# Altium footprint library FootPrintLib_2.PcbLib: 173 footprints (part 1 of 11)
Each footprint in its own frame and in the unit in brackets; x right, y up, seen from the top. Pads: shape width x height; smd on the part's side, far side on the other; paste and mask are expansions set on the pad; w line width, h text height; cw(c..) or ccw(c..) is an arc to the next point about the centre after c.
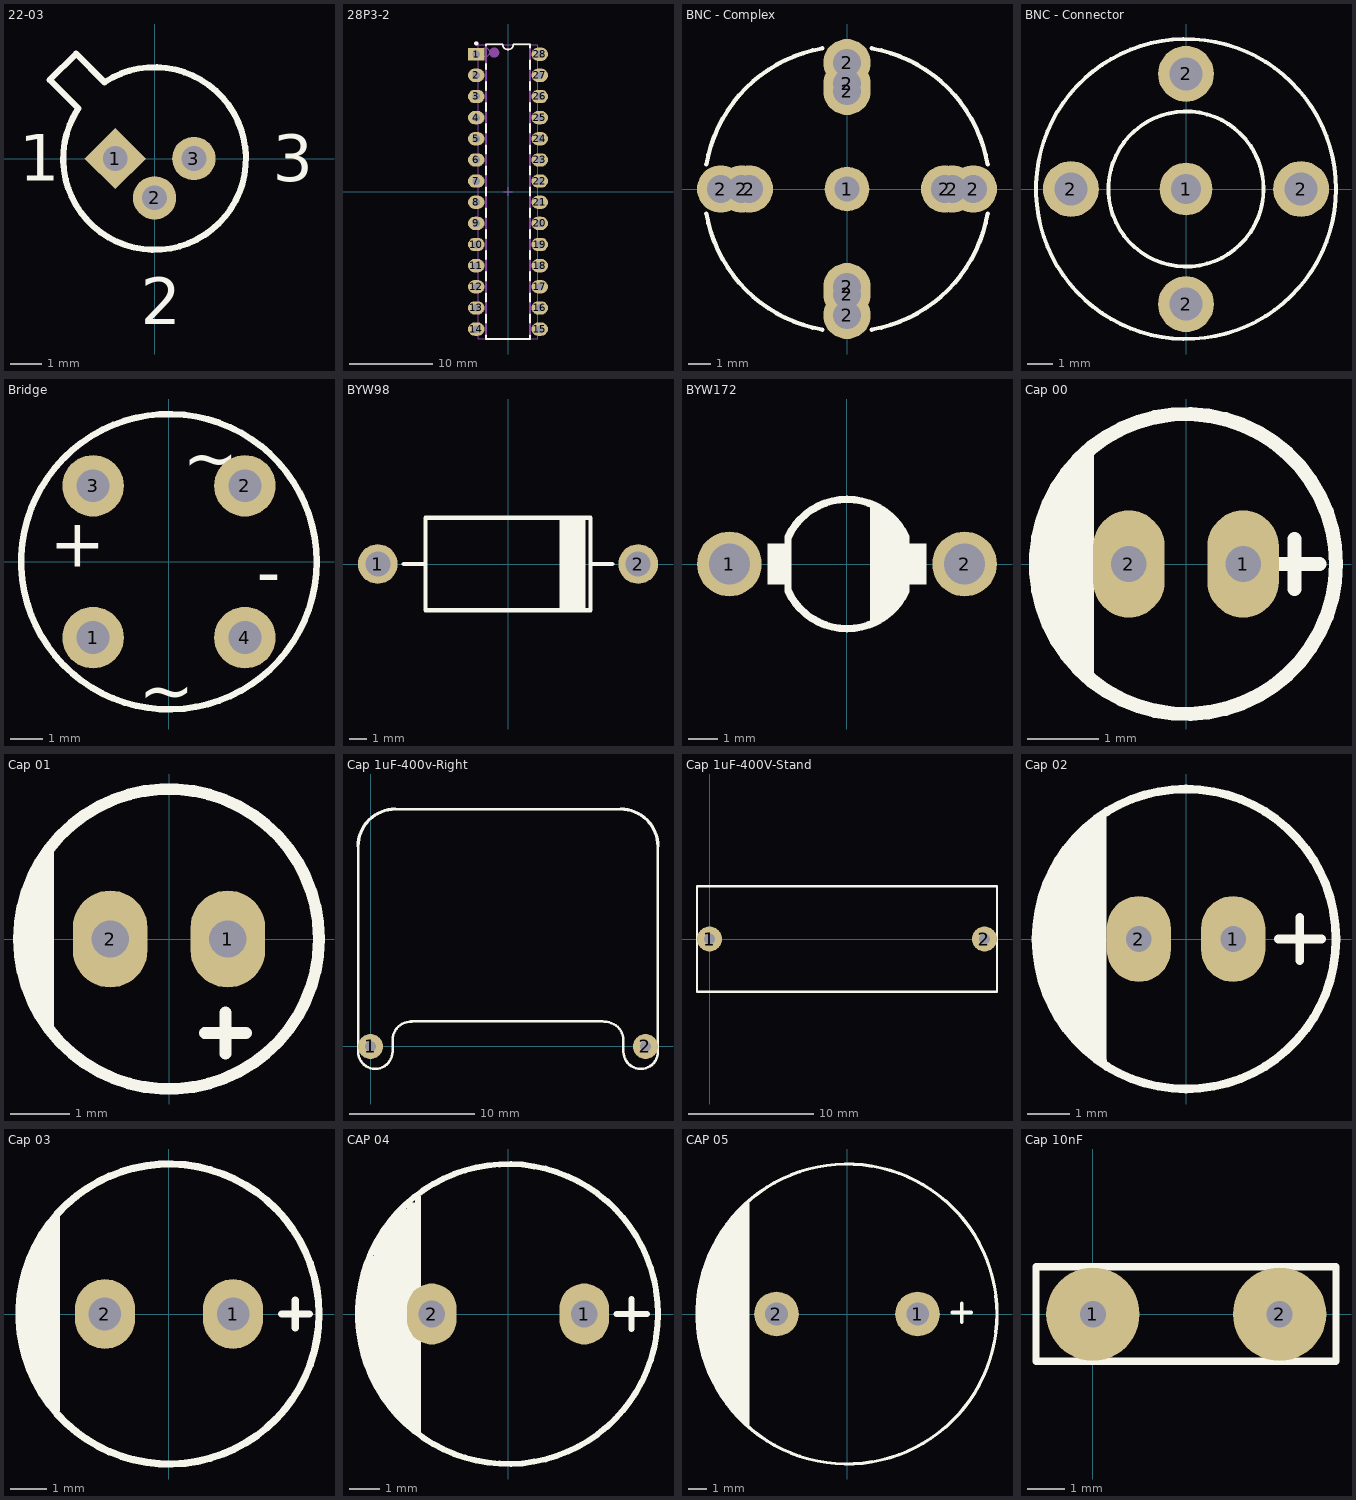
[diagram p0: the footprints below, top view; thin cyan lines are the x and y axes]

## 22-03 [mm] "Can; 3 Leads; Pin Circle Dia. 2.54 mm; Lead Dia. 0.48 mm (max)"
height 5.33
pads (3):
  rect 1.4x1.4 hole 0.8 rot 45: 1(-1.27,0)
  round 1.4 hole 0.8: 2(0,-1.27) 3(1.27,0)
Top Overlay:
  lines w0.2: -3.386,2.537 -2.467,1.618 ccw(c0,0) -1.618,2.467 -2.537,3.386 -3.386,2.537
  text "3" at 3.812,-0.742 h1.5
  text "2" at -0.443,-5.355 h1.5
  text "1" at -4.38,-0.719 h1.5

## 28P3-2 [mm] "DIP; 28 Leads; Row Spacing 7.62 mm; Pitch 2.54 mm"
height 4.58
pads (28):
  rect 2x1.5 hole 0.9: 1(-3.81,16.51)
  oval 2x1.6 hole 0.9: 2(-3.81,13.97) 3(-3.81,11.43) 4(-3.81,8.89) 5(-3.81,6.35) 6(-3.81,3.81) 7(-3.81,1.27) 8(-3.81,-1.27) 9(-3.81,-3.81) 10(-3.81,-6.35) 11(-3.81,-8.89) 12(-3.81,-11.43) 13(-3.81,-13.97) 14(-3.81,-16.51) 15(3.81,-16.51) 16(3.81,-13.97) 17(3.81,-11.43) 18(3.81,-8.89) 19(3.81,-6.35) 20(3.81,-3.81) 21(3.81,-1.27) 22(3.81,1.27) 23(3.81,3.81) 24(3.81,6.35) 25(3.81,8.89) 26(3.81,11.43) 27(3.81,13.97) 28(3.81,16.51)
Top Overlay:
  circle w0.25: c-3.81,17.81 r0.125
  lines w0.2: -2.65,-17.272 -2.65,-17.7 2.65,-17.7 2.65,-17.272 ; -2.65,-15.748 -2.65,-14.732 ; -2.65,-13.208 -2.65,-12.192 ; -2.65,-10.668 -2.65,-9.652 ; -2.65,-8.128 -2.65,-7.112 ; -2.65,-5.588 -2.65,-4.572 ; -2.65,-3.048 -2.65,-2.032 ; -2.65,-0.508 -2.65,0.508 ; -2.65,2.032 -2.65,3.048 ; -2.65,4.572 -2.65,5.588 ; -2.65,7.112 -2.65,8.128 ; -2.65,9.652 -2.65,10.668 ; -2.65,12.192 -2.65,13.208 ; -2.65,14.732 -2.65,15.367 ; -2.65,17.526 -2.65,17.7 -0.635,17.7 ccw(c0,17.7) 0.635,17.7 2.65,17.7 2.65,17.272 ; 2.65,-15.748 2.65,-14.732 ; 2.65,-13.208 2.65,-12.192 ; 2.65,-10.668 2.65,-9.652 ; 2.65,-8.128 2.65,-7.112 ; 2.65,-5.588 2.65,-4.572 ; 2.65,-3.048 2.65,-2.032 ; 2.65,-0.508 2.65,0.508 ; 2.65,2.032 2.65,3.048 ; 2.65,4.572 2.65,5.588 ; 2.65,7.112 2.65,8.128 ; 2.65,9.652 2.65,10.668 ; 2.65,12.192 2.65,13.208 ; 2.65,14.732 2.65,15.748
Mechanical 1:
  circle w0.25: c-3.81,17.81 r0.125
  circle w0.6: c-1.65,16.7 r0.3
  lines w0.2: -2.65,-17.7 2.65,-17.7 2.65,17.7 0.635,17.7 cw(c0,17.7) -0.635,17.7 -2.65,17.7 -2.65,-17.7
Mechanical 13:
  circle w0.1: c-2.7,16.75 r0.5
  lines w0.1: -3.6,-17.65 -3.6,17.65 3.6,17.65 3.6,-17.65 -3.6,-17.65
Mechanical 15:
  lines w0.1: -0.5,0 0.5,0 ; 0,-0.5 0,0.5

## BNC - Complex [mil] "Complex Male & Female BNC (Increase BNC Height)"
height 1377.95
pads (13):
  round 80 hole 45: 1(0,0)
  round 85 hole 50: 2(-226.38,0) 2(-188.98,0) 2(-175.2,0) 2(0,-226.38) 2(0,-188.98) 2(0,-175.2) 2(0,175.2) 2(0,188.98) 2(0,226.38) 2(175.2,0) 2(188.98,0) 2(226.38,0)
Top Overlay:
  lines w7.87: -252.02,-44.44 ccw(c0,0) -44.44,-252.02 ; -252.02,44.44 cw(c0,0) -44.44,252.02 ; 44.44,-252.02 ccw(c0,0) 252.02,-44.44 ; 44.44,252.02 cw(c0,0) 252.02,44.44
3D body "BNC_complex.STEP": height 1373.62, standoff -169.29, extent -277.99,-278.2 278.01,278.21

## BNC - Connector [mil] "BNC Short Connector"
height 543.31
pads (5):
  round 80 hole 45: 1(0,0)
  round 85 hole 50: 2(-175.2,0) 2(0,-175.2) 2(0,175.2) 2(175.2,0)
Top Overlay:
  circle w5.91: c0,0 r118.11
  circle w5.91: c0,0 r228.35
3D body "My BNC Short.STEP": height 538.19, standoff -173.23, extent -218.11,-218.11 218.11,218.11

## Bridge [mm]
height 5.1
pads (4):
  round 1.905 hole 1.016: 1(-2.35,-2.35) 2(2.35,2.35) 3(-2.35,2.35) 4(2.35,-2.35)
Top Overlay:
  circle w0.2: c0,0 r4.572
  text "-" at 2.723,-1.054 h1.5
  text "+" at -3.698,-0.152 h1.5
  text "~" at -0.942,-4.714 h1.5
  text "~" at 0.432,2.489 h1.5
3D body "bridge.STEP": height 5.21, standoff -1.9, extent -3.923,-4.064 4.177,4.036

## BYW98 [mil]
pads (2):
  round 90 hole 57: 1(-295,0) 2(295,0)
Top Overlay:
  region: 175.2,105 175.2,-105 117.72,-105 117.72,105
  lines w10: -236.22,0 -187,0 ; 187,0 236.22,0 ; -187,-105 -187,105 187,105 187,-105 -187,-105
3D body "BYW98.STEP": height 254.33, standoff -86.22, extent -320.47,-105.51 321.26,103.15

## BYW172 [mm]
pads (2):
  round 2.2 hole 1.4: 1(-4,0) 2(4,0)
Top Overlay:
  region: 2.7,0.7 2.006,0.7 2.006,-0.7 2.7,-0.7
  rectangle: -2.7,-0.7 -2.006,0.7
  region: 0.903,-2.006 0.903,2.006 1.085,1.924 1.414,1.697 1.697,1.414 1.924,1.085 2.006,0.903 2.006,-0.903 1.924,-1.085 1.697,-1.414 1.414,-1.697 1.085,-1.924
  lines w0.254: 2.006,-0.903 cw(c0,0) 0.903,-2.006 0.903,2.006 cw(c0,0) 2.006,0.903 ; 2.006,-0.903 cw(c0,0) -2.006,-0.903 -2.006,0.903 cw(c0,0) 2.006,0.903 ; 2.006,-0.903 2.006,0.903

## Cap 00 [mm] "diameter: 4'mm"
pads (2):
  oval 1x1.5 hole 0.5: 1(0.8,0) 2(-0.8,0)
Top Overlay:
  circle w0.2: c0,0 r2.1
  lines w0.2: -1.93,-0.76 -1.93,0.8 -1.92,0.81 ; -1.75,-1.12 -1.75,1.15 ; -1.57,1.36 -1.57,-1.33 -1.56,-1.34 ; -1.39,-1.54 -1.39,1.55 ; 1.17,0 1.87,0 ; 1.52,-0.35 1.52,0.35

## Cap 01 [mm] "diameter: 5'mm"
pads (2):
  oval 1.27x1.651 hole 0.635: 1(1,0) 2(-1,0)
Top Overlay:
  circle w0.2: c0,0 r2.55
  region: -1.956,-1.651 -1.956,1.626 -2.21,1.295 -2.388,0.914 -2.54,0.279 -2.515,-0.457 -2.337,-1.118
  lines w0.2: 0.61,-1.6 1.31,-1.6 ; 0.96,-1.95 0.96,-1.25
3D body "SW3dPS-Cap electro 5x11x2mm.STEP": height 12.54, standoff -2.26, extent -2.525,-2.525 2.526,2.526

## Cap 1uF-400v-Right [mm] "Body: 24'mm, Pin: 22'mm"
pads (2):
  round 2 hole 0.85: 1(0,0) 2(22,0)
Top Overlay:
  lines w0.2: -1,16 -1,-0.4 ccw(c0.38,-0.4) 1.76,-0.4 1.76,0.52 cw(c3.236,0.514) 3.305,1.988 ; 2,19 20,19 ; 3.2,2 18.59,2.003 ; 18.695,1.968 cw(c18.764,0.494) 20.24,0.5 20.24,-0.42 ccw(c21.62,-0.42) 23,-0.42 23,16
  lines w0.254: -1.001,16 cw(c2,16) 2,19.001 ; 20,19.001 cw(c20,16) 23.001,16

## Cap 1uF-400V-Stand [mm] "Body: 24'mm, Pin: 22'mm"
height 16.65
pads (2):
  round 2 hole 0.85: 1(0,0) 2(22,0)
Top Overlay:
  lines w0.2: -1,-4.23 23,-4.23 23,4.23 -1,4.23 -1,-4.23

## Cap 02 [mm] "diameter: 7'mm"
pads (2):
  oval 1.5x2 hole 0.6: 1(1.1,0) 2(-1.1,0)
Top Overlay:
  circle w0.2: c0,0 r3.5
  lines w0.2: -3.34,-1.02 -3.34,0.96 ; -3.17,-1.45 -3.17,1.47 ; -3,1.8 -3,-1.79 -2.99,-1.8 ; 2.15,0 3.166,0 ; 2.658,-0.508 2.658,0.508
  lines w0.254: -2.81,-2.01 -2.81,2.03 ; -2.59,-2.29 -2.59,2.3 -2.58,2.31 ; -2.37,-2.51 -2.37,2.52 -2.36,2.53 ; -2.2,-2.67 -2.2,2.59 ; -1.98,2.84 -1.98,-2.84 -1.97,-2.85 ; -2.81,2.03 -2.81,2.03

## Cap 03 [mil] "diameter: 8'mm"
pads (2):
  oval 65x75 hole 35: 1(68.9,0) 2(-68.9,0)
Top Overlay:
  circle w7.87: c0,0 r161.42
  lines w7.87: -153.66,-42.13 -153.66,43.7 ; 121,0 151,0 ; 136,-15 136,15
  lines w10: -146.18,-64.17 -146.18,63.78 ; -137.52,-81.89 -137.52,81.5 ; -128.86,-94.88 -128.86,95.28 ; -122.17,-103.15 -122.17,103.94
3D body "SW3dPS-Cap electro 8x11.5x3.5mm_V2008.STEP": height 473.44, standoff -136.91, extent -159.48,-159 157.48,157.96

## CAP 04 [mil] "diameter: 10'mm"
pads (2):
  oval 65x80 hole 35: 1(100,0) 2(-100,0)
Top Overlay:
  circle w7.87: c0,0 r196.85
  rectangle: -177.83,-74.62 -117.98,71.44
  lines w7.87: -190.91,-47 -190.91,46 ; -183.91,-63 -183.91,62 ; -177.83,-74.62 -177.83,71.44 ; -177.83,73.02 -117.98,73.02 ; -175.07,-77.77 -117.98,-77.77 ; -174.68,80.5 -117.98,80.5 ; -173.89,-84.86 -117.98,-84.86 ; -171.53,87.19 -117.98,87.19 ; -170.35,-91.94 -117.98,-91.94 ; -167.98,93.88 -117.98,93.88 ; -166.8,-98.64 -117.98,-98.64 ; -164.05,100.57 -117.98,100.57 ; -163.26,-105.33 -117.98,-105.72 ; -159.72,107.66 -117.98,107.66 ; -158.14,-112.42 -117.98,-112.42 ; -155.39,114.35 -117.98,114.35 ; -152.63,-119.9 -117.98,-119.9 ; -150.27,121.05 -117.98,121.05 ; -147.12,-127.38 -117.98,-127.38 ; -144.76,127.35 -144.36,127.74 -117.98,127.74 ; -140.82,-134.46 -117.98,-134.46 ; -138.46,134.43 -138.06,134.83 -117.98,134.83 ; -134.13,-141.16 -117.98,-141.16 ; -130.98,142.31 -117.98,142.31 ; -127.83,-146.67 -117.98,-146.67 ; -117.98,-155.72 -117.98,153.72 ; 142.13,0 182.13,0 ; 162.13,-20 162.13,20
3D body "SW3dPS-Cap electro 10x12.5x5.0mm.STEP": height 512.81, standoff -136.91, extent -197.7,-197 198,198.7

## CAP 05 [mil] "diameter: 16'mm"
pads (2):
  round 95 hole 48: 1(150,0) 2(-150,0)
Top Overlay:
  circle w7: c0,0 r318.9
  region: -211,-238 -211,235 -241,210 -273,164 -302,100 -315,50 -319,-2 -309,-79 -286,-141 -249,-200
  lines w7.87: -211,-238 -211,235 ; 224,3 264,3 ; 244,-17 244,23
3D body "SW3dPS-Cap electro 16.2x16x7.62mm_V2008.STEP": height 650.61, standoff -147.28, extent -320,-320 319.8,319.8

## Cap 10nF [mm] "Body: 8'mm, Pin: 5'mm"
pads (2):
  round 2.5 hole 0.7: 1(0,0) 2(5,0)
Top Overlay:
  lines w0.2: -1.524,-1.26 6.51,-1.26 6.51,1.24 6.51,1.27 -1.524,1.27 -1.524,-1.26